# Altium integrated library Silicon Labs Clocks and Oscillators.IntLib: 678 symbols (part 15 of 45)
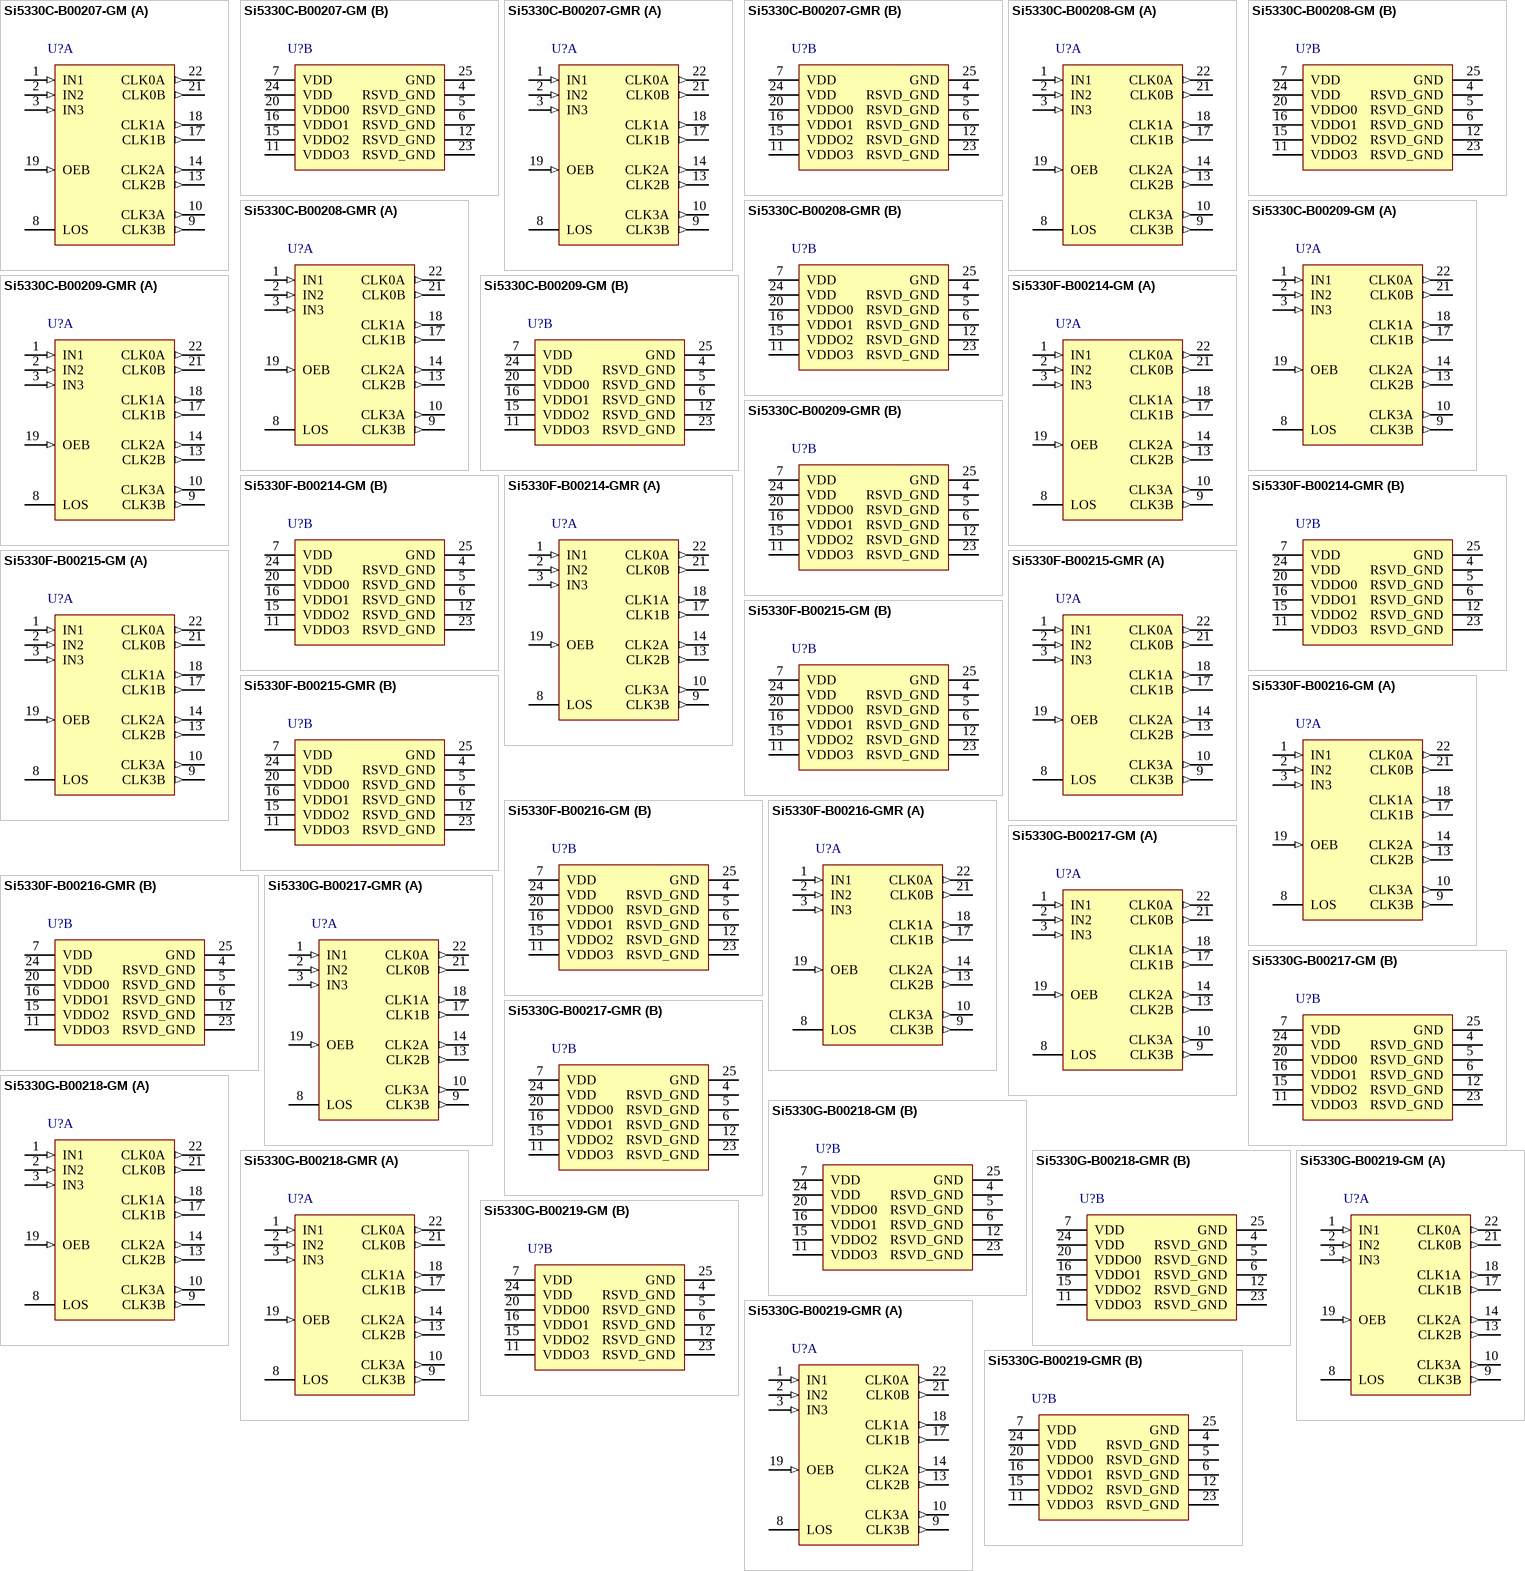
[diagram p58: symbols Si5330C-B00207-GM to Si5330G-B00219-GMR]

## Si5330C-B00207-GM
designator U?
3.3 V Low-Jitter, Low-Skew Clock Buffer / Level Translator, 5 to 250 MHz, -40 to 85 degC, 24-pin QFN; Manufacturer: Silicon Labs; PartNumber: Si5330C-B00207-GM; Frequency (MHz): 5 to 250; Output Format: HCSL; Sub-Family: Clock Buffers; DatasheetVersion: Rev. 1.1; PackageReference: QFN-24; PackageDescription: 24-Pin Quad-Flat No-Leads Package, Body 4 x 4 mm, Pitch 0.5 mm; Supplier 1: Digi-Key; Supplier Part Number 1: SI5330C-B00207-GM-ND; Supplier 2: Mouser; Supplier Part Number 2: 634-SI5330C-B00207GM; Mounting Technology: Surface Mount; Code_JEDEC: MO-220; Code_IPC: J-STD-020; ComponentLink1Description: Manufacturer URL; ComponentLink1URL: http://www.silabs.com/; ComponentLink2Description: Datasheet; ComponentLink2URL: http://www.silabs.com/Support%20Documents/TechnicalDocs/Si5330.pdf; ComponentLink3Description: Package Specification; ComponentLink3URL: http://www.silabs.com/Support%20Documents/TechnicalDocs/Si5330.pdf
footprint SLAB-QFN-24-2500x2500TP_N (QFN, 24-Leads, Body 4x4mm, Pitch 0.5mm, Thermal Pad 2.5x2.5mm, IPC Medium Density)
footprint SLAB-QFN-24-2500x2500TP_L (QFN, 24-Leads, Body 4x4mm, Pitch 0.5mm, Thermal Pad 2.5x2.5mm, IPC High Density)
footprint SLAB-QFN-24-2500x2500TP_M (QFN, 24-Leads, Body 4x4mm, Pitch 0.5mm, Thermal Pad 2.5x2.5mm, IPC Low Density)
part A pins: 1 IN1 (in), 2 IN2 (in), 3 IN3 (in), 8 LOS (oc) "Loss of Signal Indicator.", 9 CLK3B (out), 10 CLK3A (out), 13 CLK2B (out), 14 CLK2A (out), 17 CLK1B (out), 18 CLK1A (out), 19 OEB (in) "Output Enable.", 21 CLK0B (out), 22 CLK0A (out)
part B pins: 4 RSVD_GND (power) "Ground.", 5 RSVD_GND (power) "Ground.", 6 RSVD_GND (power) "Ground.", 7 VDD (power) "Core Supply Voltage.", 11 VDDO3 (power) "Output Clock Supply Voltage.", 12 RSVD_GND (power) "Ground.", 15 VDDO2 (power) "Output Clock Supply Voltage.", 16 VDDO1 (power) "Output Clock Supply Voltage.", 20 VDDO0 (power) "Output Clock Supply Voltage.", 23 RSVD_GND (power) "Ground.", 24 VDD (power) "Core Supply Voltage.", 25 GND (power) "Ground Pad."

## Si5330C-B00207-GMR
designator U?
3.3 V Low-Jitter, Low-Skew Clock Buffer / Level Translator, 5 to 250 MHz, -40 to 85 degC, 24-pin QFN, Tape and Reel; Manufacturer: Silicon Labs; PartNumber: Si5330C-B00207-GMR; Frequency (MHz): 5 to 250; Output Format: HCSL; Sub-Family: Clock Buffers; DatasheetVersion: Rev. 1.1; PackageReference: QFN-24; PackageDescription: 24-Pin Quad-Flat No-Leads Package, Body 4 x 4 mm, Pitch 0.5 mm; Supplier 1: Digi-Key; Supplier Part Number 1: SI5330C-B00207-GMR-ND; Supplier 2: Mouser; Supplier Part Number 2: 634-SI5330CB00207GMR; Packing: Tape and Reel; Mounting Technology: Surface Mount; Code_JEDEC: MO-220; Code_IPC: J-STD-020; ComponentLink1Description: Manufacturer URL; ComponentLink1URL: http://www.silabs.com/; ComponentLink2Description: Datasheet; ComponentLink2URL: http://www.silabs.com/Support%20Documents/TechnicalDocs/Si5330.pdf; ComponentLink3Description: Package Specification; ComponentLink3URL: http://www.silabs.com/Support%20Documents/TechnicalDocs/Si5330.pdf
footprint SLAB-QFN-24-2500x2500TP_N (QFN, 24-Leads, Body 4x4mm, Pitch 0.5mm, Thermal Pad 2.5x2.5mm, IPC Medium Density)
footprint SLAB-QFN-24-2500x2500TP_L (QFN, 24-Leads, Body 4x4mm, Pitch 0.5mm, Thermal Pad 2.5x2.5mm, IPC High Density)
footprint SLAB-QFN-24-2500x2500TP_M (QFN, 24-Leads, Body 4x4mm, Pitch 0.5mm, Thermal Pad 2.5x2.5mm, IPC Low Density)
part A pins: 1 IN1 (in), 2 IN2 (in), 3 IN3 (in), 8 LOS (oc) "Loss of Signal Indicator.", 9 CLK3B (out), 10 CLK3A (out), 13 CLK2B (out), 14 CLK2A (out), 17 CLK1B (out), 18 CLK1A (out), 19 OEB (in) "Output Enable.", 21 CLK0B (out), 22 CLK0A (out)
part B pins: 4 RSVD_GND (power) "Ground.", 5 RSVD_GND (power) "Ground.", 6 RSVD_GND (power) "Ground.", 7 VDD (power) "Core Supply Voltage.", 11 VDDO3 (power) "Output Clock Supply Voltage.", 12 RSVD_GND (power) "Ground.", 15 VDDO2 (power) "Output Clock Supply Voltage.", 16 VDDO1 (power) "Output Clock Supply Voltage.", 20 VDDO0 (power) "Output Clock Supply Voltage.", 23 RSVD_GND (power) "Ground.", 24 VDD (power) "Core Supply Voltage.", 25 GND (power) "Ground Pad."

## Si5330C-B00208-GM
designator U?
2.5 V Low-Jitter, Low-Skew Clock Buffer / Level Translator, 5 to 250 MHz, -40 to 85 degC, 24-pin QFN; Manufacturer: Silicon Labs; PartNumber: Si5330C-B00208-GM; Frequency (MHz): 5 to 250; Output Format: HCSL; Sub-Family: Clock Buffers; DatasheetVersion: Rev. 1.1; PackageReference: QFN-24; PackageDescription: 24-Pin Quad-Flat No-Leads Package, Body 4 x 4 mm, Pitch 0.5 mm; Supplier 1: Digi-Key; Supplier Part Number 1: SI5330C-B00208-GM-ND; Supplier 2: Mouser; Supplier Part Number 2: 634-SI5330C-B00208GM; Mounting Technology: Surface Mount; Code_JEDEC: MO-220; Code_IPC: J-STD-020; ComponentLink1Description: Manufacturer URL; ComponentLink1URL: http://www.silabs.com/; ComponentLink2Description: Datasheet; ComponentLink2URL: http://www.silabs.com/Support%20Documents/TechnicalDocs/Si5330.pdf; ComponentLink3Description: Package Specification; ComponentLink3URL: http://www.silabs.com/Support%20Documents/TechnicalDocs/Si5330.pdf
footprint SLAB-QFN-24-2500x2500TP_N (QFN, 24-Leads, Body 4x4mm, Pitch 0.5mm, Thermal Pad 2.5x2.5mm, IPC Medium Density)
footprint SLAB-QFN-24-2500x2500TP_L (QFN, 24-Leads, Body 4x4mm, Pitch 0.5mm, Thermal Pad 2.5x2.5mm, IPC High Density)
footprint SLAB-QFN-24-2500x2500TP_M (QFN, 24-Leads, Body 4x4mm, Pitch 0.5mm, Thermal Pad 2.5x2.5mm, IPC Low Density)
part A pins: 1 IN1 (in), 2 IN2 (in), 3 IN3 (in), 8 LOS (oc) "Loss of Signal Indicator.", 9 CLK3B (out), 10 CLK3A (out), 13 CLK2B (out), 14 CLK2A (out), 17 CLK1B (out), 18 CLK1A (out), 19 OEB (in) "Output Enable.", 21 CLK0B (out), 22 CLK0A (out)
part B pins: 4 RSVD_GND (power) "Ground.", 5 RSVD_GND (power) "Ground.", 6 RSVD_GND (power) "Ground.", 7 VDD (power) "Core Supply Voltage.", 11 VDDO3 (power) "Output Clock Supply Voltage.", 12 RSVD_GND (power) "Ground.", 15 VDDO2 (power) "Output Clock Supply Voltage.", 16 VDDO1 (power) "Output Clock Supply Voltage.", 20 VDDO0 (power) "Output Clock Supply Voltage.", 23 RSVD_GND (power) "Ground.", 24 VDD (power) "Core Supply Voltage.", 25 GND (power) "Ground Pad."

## Si5330C-B00208-GMR
designator U?
2.5 V Low-Jitter, Low-Skew Clock Buffer / Level Translator, 5 to 250 MHz, -40 to 85 degC, 24-pin QFN, Tape and Reel; Manufacturer: Silicon Labs; PartNumber: Si5330C-B00208-GMR; Frequency (MHz): 5 to 250; Output Format: HCSL; Sub-Family: Clock Buffers; DatasheetVersion: Rev. 1.1; PackageReference: QFN-24; PackageDescription: 24-Pin Quad-Flat No-Leads Package, Body 4 x 4 mm, Pitch 0.5 mm; Supplier 1: Digi-Key; Supplier Part Number 1: SI5330C-B00208-GMR-ND; Supplier 2: Mouser; Supplier Part Number 2: 634-SI5330CB00208GMR; Packing: Tape and Reel; Mounting Technology: Surface Mount; Code_JEDEC: MO-220; Code_IPC: J-STD-020; ComponentLink1Description: Manufacturer URL; ComponentLink1URL: http://www.silabs.com/; ComponentLink2Description: Datasheet; ComponentLink2URL: http://www.silabs.com/Support%20Documents/TechnicalDocs/Si5330.pdf; ComponentLink3Description: Package Specification; ComponentLink3URL: http://www.silabs.com/Support%20Documents/TechnicalDocs/Si5330.pdf
footprint SLAB-QFN-24-2500x2500TP_N (QFN, 24-Leads, Body 4x4mm, Pitch 0.5mm, Thermal Pad 2.5x2.5mm, IPC Medium Density)
footprint SLAB-QFN-24-2500x2500TP_L (QFN, 24-Leads, Body 4x4mm, Pitch 0.5mm, Thermal Pad 2.5x2.5mm, IPC High Density)
footprint SLAB-QFN-24-2500x2500TP_M (QFN, 24-Leads, Body 4x4mm, Pitch 0.5mm, Thermal Pad 2.5x2.5mm, IPC Low Density)
part A pins: 1 IN1 (in), 2 IN2 (in), 3 IN3 (in), 8 LOS (oc) "Loss of Signal Indicator.", 9 CLK3B (out), 10 CLK3A (out), 13 CLK2B (out), 14 CLK2A (out), 17 CLK1B (out), 18 CLK1A (out), 19 OEB (in) "Output Enable.", 21 CLK0B (out), 22 CLK0A (out)
part B pins: 4 RSVD_GND (power) "Ground.", 5 RSVD_GND (power) "Ground.", 6 RSVD_GND (power) "Ground.", 7 VDD (power) "Core Supply Voltage.", 11 VDDO3 (power) "Output Clock Supply Voltage.", 12 RSVD_GND (power) "Ground.", 15 VDDO2 (power) "Output Clock Supply Voltage.", 16 VDDO1 (power) "Output Clock Supply Voltage.", 20 VDDO0 (power) "Output Clock Supply Voltage.", 23 RSVD_GND (power) "Ground.", 24 VDD (power) "Core Supply Voltage.", 25 GND (power) "Ground Pad."

## Si5330C-B00209-GM
designator U?
1.8 V Low-Jitter, Low-Skew Clock Buffer / Level Translator, 5 to 250 MHz, -40 to 85 degC, 24-pin QFN; Manufacturer: Silicon Labs; PartNumber: Si5330C-B00209-GM; Frequency (MHz): 5 to 250; Output Format: HCSL; Sub-Family: Clock Buffers; DatasheetVersion: Rev. 1.1; PackageReference: QFN-24; PackageDescription: 24-Pin Quad-Flat No-Leads Package, Body 4 x 4 mm, Pitch 0.5 mm; Supplier 1: Digi-Key; Supplier Part Number 1: SI5330C-B00209-GM-ND; Supplier 2: Mouser; Supplier Part Number 2: 634-SI5330C-B00209GM; Mounting Technology: Surface Mount; Code_JEDEC: MO-220; Code_IPC: J-STD-020; ComponentLink1Description: Manufacturer URL; ComponentLink1URL: http://www.silabs.com/; ComponentLink2Description: Datasheet; ComponentLink2URL: http://www.silabs.com/Support%20Documents/TechnicalDocs/Si5330.pdf; ComponentLink3Description: Package Specification; ComponentLink3URL: http://www.silabs.com/Support%20Documents/TechnicalDocs/Si5330.pdf
footprint SLAB-QFN-24-2500x2500TP_N (QFN, 24-Leads, Body 4x4mm, Pitch 0.5mm, Thermal Pad 2.5x2.5mm, IPC Medium Density)
footprint SLAB-QFN-24-2500x2500TP_L (QFN, 24-Leads, Body 4x4mm, Pitch 0.5mm, Thermal Pad 2.5x2.5mm, IPC High Density)
footprint SLAB-QFN-24-2500x2500TP_M (QFN, 24-Leads, Body 4x4mm, Pitch 0.5mm, Thermal Pad 2.5x2.5mm, IPC Low Density)
part A pins: 1 IN1 (in), 2 IN2 (in), 3 IN3 (in), 8 LOS (oc) "Loss of Signal Indicator.", 9 CLK3B (out), 10 CLK3A (out), 13 CLK2B (out), 14 CLK2A (out), 17 CLK1B (out), 18 CLK1A (out), 19 OEB (in) "Output Enable.", 21 CLK0B (out), 22 CLK0A (out)
part B pins: 4 RSVD_GND (power) "Ground.", 5 RSVD_GND (power) "Ground.", 6 RSVD_GND (power) "Ground.", 7 VDD (power) "Core Supply Voltage.", 11 VDDO3 (power) "Output Clock Supply Voltage.", 12 RSVD_GND (power) "Ground.", 15 VDDO2 (power) "Output Clock Supply Voltage.", 16 VDDO1 (power) "Output Clock Supply Voltage.", 20 VDDO0 (power) "Output Clock Supply Voltage.", 23 RSVD_GND (power) "Ground.", 24 VDD (power) "Core Supply Voltage.", 25 GND (power) "Ground Pad."

## Si5330C-B00209-GMR
designator U?
1.8 V Low-Jitter, Low-Skew Clock Buffer / Level Translator, 5 to 250 MHz, -40 to 85 degC, 24-pin QFN, Tape and Reel; Manufacturer: Silicon Labs; PartNumber: Si5330C-B00209-GMR; Frequency (MHz): 5 to 250; Output Format: HCSL; Sub-Family: Clock Buffers; DatasheetVersion: Rev. 1.1; PackageReference: QFN-24; PackageDescription: 24-Pin Quad-Flat No-Leads Package, Body 4 x 4 mm, Pitch 0.5 mm; Supplier 1: Digi-Key; Supplier Part Number 1: SI5330C-B00209-GMR-ND; Supplier 2: Mouser; Supplier Part Number 2: 634-SI5330CB00209GMR; Packing: Tape and Reel; Mounting Technology: Surface Mount; Code_JEDEC: MO-220; Code_IPC: J-STD-020; ComponentLink1Description: Manufacturer URL; ComponentLink1URL: http://www.silabs.com/; ComponentLink2Description: Datasheet; ComponentLink2URL: http://www.silabs.com/Support%20Documents/TechnicalDocs/Si5330.pdf; ComponentLink3Description: Package Specification; ComponentLink3URL: http://www.silabs.com/Support%20Documents/TechnicalDocs/Si5330.pdf
footprint SLAB-QFN-24-2500x2500TP_N (QFN, 24-Leads, Body 4x4mm, Pitch 0.5mm, Thermal Pad 2.5x2.5mm, IPC Medium Density)
footprint SLAB-QFN-24-2500x2500TP_L (QFN, 24-Leads, Body 4x4mm, Pitch 0.5mm, Thermal Pad 2.5x2.5mm, IPC High Density)
footprint SLAB-QFN-24-2500x2500TP_M (QFN, 24-Leads, Body 4x4mm, Pitch 0.5mm, Thermal Pad 2.5x2.5mm, IPC Low Density)
part A pins: 1 IN1 (in), 2 IN2 (in), 3 IN3 (in), 8 LOS (oc) "Loss of Signal Indicator.", 9 CLK3B (out), 10 CLK3A (out), 13 CLK2B (out), 14 CLK2A (out), 17 CLK1B (out), 18 CLK1A (out), 19 OEB (in) "Output Enable.", 21 CLK0B (out), 22 CLK0A (out)
part B pins: 4 RSVD_GND (power) "Ground.", 5 RSVD_GND (power) "Ground.", 6 RSVD_GND (power) "Ground.", 7 VDD (power) "Core Supply Voltage.", 11 VDDO3 (power) "Output Clock Supply Voltage.", 12 RSVD_GND (power) "Ground.", 15 VDDO2 (power) "Output Clock Supply Voltage.", 16 VDDO1 (power) "Output Clock Supply Voltage.", 20 VDDO0 (power) "Output Clock Supply Voltage.", 23 RSVD_GND (power) "Ground.", 24 VDD (power) "Core Supply Voltage.", 25 GND (power) "Ground Pad."

## Si5330F-B00214-GM
designator U?
3.3 V Low-Jitter, Low-Skew Clock Buffer / Level Translator, 5 to 200 MHz, -40 to 85 degC, 24-pin QFN; Manufacturer: Silicon Labs; PartNumber: Si5330F-B00214-GM; Frequency (MHz): 5 to 200; Output Format: LVCMOS; Sub-Family: Clock Buffers; DatasheetVersion: Rev. 1.1; PackageReference: QFN-24; PackageDescription: 24-Pin Quad-Flat No-Leads Package, Body 4 x 4 mm, Pitch 0.5 mm; Supplier 1: Digi-Key; Supplier Part Number 1: SI5330F-B00214-GM-ND; Supplier 2: Mouser; Supplier Part Number 2: 634-SI5330FB00214-GM; Mounting Technology: Surface Mount; Code_JEDEC: MO-220; Code_IPC: J-STD-020; ComponentLink1Description: Manufacturer URL; ComponentLink1URL: http://www.silabs.com/; ComponentLink2Description: Datasheet; ComponentLink2URL: http://www.silabs.com/Support%20Documents/TechnicalDocs/Si5330.pdf; ComponentLink3Description: Package Specification; ComponentLink3URL: http://www.silabs.com/Support%20Documents/TechnicalDocs/Si5330.pdf
footprint SLAB-QFN-24-2500x2500TP_N (QFN, 24-Leads, Body 4x4mm, Pitch 0.5mm, Thermal Pad 2.5x2.5mm, IPC Medium Density)
footprint SLAB-QFN-24-2500x2500TP_L (QFN, 24-Leads, Body 4x4mm, Pitch 0.5mm, Thermal Pad 2.5x2.5mm, IPC High Density)
footprint SLAB-QFN-24-2500x2500TP_M (QFN, 24-Leads, Body 4x4mm, Pitch 0.5mm, Thermal Pad 2.5x2.5mm, IPC Low Density)
part A pins: 1 IN1 (in), 2 IN2 (in), 3 IN3 (in), 8 LOS (oc) "Loss of Signal Indicator.", 9 CLK3B (out), 10 CLK3A (out), 13 CLK2B (out), 14 CLK2A (out), 17 CLK1B (out), 18 CLK1A (out), 19 OEB (in) "Output Enable.", 21 CLK0B (out), 22 CLK0A (out)
part B pins: 4 RSVD_GND (power) "Ground.", 5 RSVD_GND (power) "Ground.", 6 RSVD_GND (power) "Ground.", 7 VDD (power) "Core Supply Voltage.", 11 VDDO3 (power) "Output Clock Supply Voltage.", 12 RSVD_GND (power) "Ground.", 15 VDDO2 (power) "Output Clock Supply Voltage.", 16 VDDO1 (power) "Output Clock Supply Voltage.", 20 VDDO0 (power) "Output Clock Supply Voltage.", 23 RSVD_GND (power) "Ground.", 24 VDD (power) "Core Supply Voltage.", 25 GND (power) "Ground Pad."

## Si5330F-B00214-GMR
designator U?
3.3 V Low-Jitter, Low-Skew Clock Buffer / Level Translator, 5 to 200 MHz, -40 to 85 degC, 24-pin QFN, Tape and Reel; Manufacturer: Silicon Labs; PartNumber: Si5330F-B00214-GMR; Frequency (MHz): 5 to 200; Output Format: LVCMOS; Sub-Family: Clock Buffers; DatasheetVersion: Rev. 1.1; PackageReference: QFN-24; PackageDescription: 24-Pin Quad-Flat No-Leads Package, Body 4 x 4 mm, Pitch 0.5 mm; Supplier 1: Digi-Key; Supplier Part Number 1: SI5330F-B00214-GMR-ND; Supplier 2: Mouser; Supplier Part Number 2: 634-SI5330FB00214GMR; Packing: Tape and Reel; Mounting Technology: Surface Mount; Code_JEDEC: MO-220; Code_IPC: J-STD-020; ComponentLink1Description: Manufacturer URL; ComponentLink1URL: http://www.silabs.com/; ComponentLink2Description: Datasheet; ComponentLink2URL: http://www.silabs.com/Support%20Documents/TechnicalDocs/Si5330.pdf; ComponentLink3Description: Package Specification; ComponentLink3URL: http://www.silabs.com/Support%20Documents/TechnicalDocs/Si5330.pdf
footprint SLAB-QFN-24-2500x2500TP_N (QFN, 24-Leads, Body 4x4mm, Pitch 0.5mm, Thermal Pad 2.5x2.5mm, IPC Medium Density)
footprint SLAB-QFN-24-2500x2500TP_L (QFN, 24-Leads, Body 4x4mm, Pitch 0.5mm, Thermal Pad 2.5x2.5mm, IPC High Density)
footprint SLAB-QFN-24-2500x2500TP_M (QFN, 24-Leads, Body 4x4mm, Pitch 0.5mm, Thermal Pad 2.5x2.5mm, IPC Low Density)
part A pins: 1 IN1 (in), 2 IN2 (in), 3 IN3 (in), 8 LOS (oc) "Loss of Signal Indicator.", 9 CLK3B (out), 10 CLK3A (out), 13 CLK2B (out), 14 CLK2A (out), 17 CLK1B (out), 18 CLK1A (out), 19 OEB (in) "Output Enable.", 21 CLK0B (out), 22 CLK0A (out)
part B pins: 4 RSVD_GND (power) "Ground.", 5 RSVD_GND (power) "Ground.", 6 RSVD_GND (power) "Ground.", 7 VDD (power) "Core Supply Voltage.", 11 VDDO3 (power) "Output Clock Supply Voltage.", 12 RSVD_GND (power) "Ground.", 15 VDDO2 (power) "Output Clock Supply Voltage.", 16 VDDO1 (power) "Output Clock Supply Voltage.", 20 VDDO0 (power) "Output Clock Supply Voltage.", 23 RSVD_GND (power) "Ground.", 24 VDD (power) "Core Supply Voltage.", 25 GND (power) "Ground Pad."

## Si5330F-B00215-GM
designator U?
2.5 V Low-Jitter, Low-Skew Clock Buffer / Level Translator, 5 to 200 MHz, -40 to 85 degC, 24-pin QFN; Manufacturer: Silicon Labs; PartNumber: Si5330F-B00215-GM; Frequency (MHz): 5 to 200; Output Format: LVCMOS; Sub-Family: Clock Buffers; DatasheetVersion: Rev. 1.1; PackageReference: QFN-24; PackageDescription: 24-Pin Quad-Flat No-Leads Package, Body 4 x 4 mm, Pitch 0.5 mm; Supplier 1: Digi-Key; Supplier Part Number 1: SI5330F-B00215-GM-ND; Supplier 2: Mouser; Supplier Part Number 2: 634-SI5330FB00215-GM; Mounting Technology: Surface Mount; Code_JEDEC: MO-220; Code_IPC: J-STD-020; ComponentLink1Description: Manufacturer URL; ComponentLink1URL: http://www.silabs.com/; ComponentLink2Description: Datasheet; ComponentLink2URL: http://www.silabs.com/Support%20Documents/TechnicalDocs/Si5330.pdf; ComponentLink3Description: Package Specification; ComponentLink3URL: http://www.silabs.com/Support%20Documents/TechnicalDocs/Si5330.pdf
footprint SLAB-QFN-24-2500x2500TP_N (QFN, 24-Leads, Body 4x4mm, Pitch 0.5mm, Thermal Pad 2.5x2.5mm, IPC Medium Density)
footprint SLAB-QFN-24-2500x2500TP_L (QFN, 24-Leads, Body 4x4mm, Pitch 0.5mm, Thermal Pad 2.5x2.5mm, IPC High Density)
footprint SLAB-QFN-24-2500x2500TP_M (QFN, 24-Leads, Body 4x4mm, Pitch 0.5mm, Thermal Pad 2.5x2.5mm, IPC Low Density)
part A pins: 1 IN1 (in), 2 IN2 (in), 3 IN3 (in), 8 LOS (oc) "Loss of Signal Indicator.", 9 CLK3B (out), 10 CLK3A (out), 13 CLK2B (out), 14 CLK2A (out), 17 CLK1B (out), 18 CLK1A (out), 19 OEB (in) "Output Enable.", 21 CLK0B (out), 22 CLK0A (out)
part B pins: 4 RSVD_GND (power) "Ground.", 5 RSVD_GND (power) "Ground.", 6 RSVD_GND (power) "Ground.", 7 VDD (power) "Core Supply Voltage.", 11 VDDO3 (power) "Output Clock Supply Voltage.", 12 RSVD_GND (power) "Ground.", 15 VDDO2 (power) "Output Clock Supply Voltage.", 16 VDDO1 (power) "Output Clock Supply Voltage.", 20 VDDO0 (power) "Output Clock Supply Voltage.", 23 RSVD_GND (power) "Ground.", 24 VDD (power) "Core Supply Voltage.", 25 GND (power) "Ground Pad."

## Si5330F-B00215-GMR
designator U?
2.5 V Low-Jitter, Low-Skew Clock Buffer / Level Translator, 5 to 200 MHz, -40 to 85 degC, 24-pin QFN, Tape and Reel; Manufacturer: Silicon Labs; PartNumber: Si5330F-B00215-GMR; Frequency (MHz): 5 to 200; Output Format: LVCMOS; Sub-Family: Clock Buffers; DatasheetVersion: Rev. 1.1; PackageReference: QFN-24; PackageDescription: 24-Pin Quad-Flat No-Leads Package, Body 4 x 4 mm, Pitch 0.5 mm; Supplier 1: Digi-Key; Supplier Part Number 1: SI5330F-B00215-GMR-ND; Supplier 2: Mouser; Supplier Part Number 2: 634-SI5330FB00215GMR; Packing: Tape and Reel; Mounting Technology: Surface Mount; Code_JEDEC: MO-220; Code_IPC: J-STD-020; ComponentLink1Description: Manufacturer URL; ComponentLink1URL: http://www.silabs.com/; ComponentLink2Description: Datasheet; ComponentLink2URL: http://www.silabs.com/Support%20Documents/TechnicalDocs/Si5330.pdf; ComponentLink3Description: Package Specification; ComponentLink3URL: http://www.silabs.com/Support%20Documents/TechnicalDocs/Si5330.pdf
footprint SLAB-QFN-24-2500x2500TP_N (QFN, 24-Leads, Body 4x4mm, Pitch 0.5mm, Thermal Pad 2.5x2.5mm, IPC Medium Density)
footprint SLAB-QFN-24-2500x2500TP_L (QFN, 24-Leads, Body 4x4mm, Pitch 0.5mm, Thermal Pad 2.5x2.5mm, IPC High Density)
footprint SLAB-QFN-24-2500x2500TP_M (QFN, 24-Leads, Body 4x4mm, Pitch 0.5mm, Thermal Pad 2.5x2.5mm, IPC Low Density)
part A pins: 1 IN1 (in), 2 IN2 (in), 3 IN3 (in), 8 LOS (oc) "Loss of Signal Indicator.", 9 CLK3B (out), 10 CLK3A (out), 13 CLK2B (out), 14 CLK2A (out), 17 CLK1B (out), 18 CLK1A (out), 19 OEB (in) "Output Enable.", 21 CLK0B (out), 22 CLK0A (out)
part B pins: 4 RSVD_GND (power) "Ground.", 5 RSVD_GND (power) "Ground.", 6 RSVD_GND (power) "Ground.", 7 VDD (power) "Core Supply Voltage.", 11 VDDO3 (power) "Output Clock Supply Voltage.", 12 RSVD_GND (power) "Ground.", 15 VDDO2 (power) "Output Clock Supply Voltage.", 16 VDDO1 (power) "Output Clock Supply Voltage.", 20 VDDO0 (power) "Output Clock Supply Voltage.", 23 RSVD_GND (power) "Ground.", 24 VDD (power) "Core Supply Voltage.", 25 GND (power) "Ground Pad."

## Si5330F-B00216-GM
designator U?
1.8 V Low-Jitter, Low-Skew Clock Buffer / Level Translator, 5 to 200 MHz, -40 to 85 degC, 24-pin QFN; Manufacturer: Silicon Labs; PartNumber: Si5330F-B00216-GM; Frequency (MHz): 5 to 200; Output Format: LVCMOS; Sub-Family: Clock Buffers; DatasheetVersion: Rev. 1.1; PackageReference: QFN-24; PackageDescription: 24-Pin Quad-Flat No-Leads Package, Body 4 x 4 mm, Pitch 0.5 mm; Supplier 1: Digi-Key; Supplier Part Number 1: SI5330F-B00216-GM-ND; Supplier 2: Mouser; Supplier Part Number 2: 634-SI5330FB00216-GM; Mounting Technology: Surface Mount; Code_JEDEC: MO-220; Code_IPC: J-STD-020; ComponentLink1Description: Manufacturer URL; ComponentLink1URL: http://www.silabs.com/; ComponentLink2Description: Datasheet; ComponentLink2URL: http://www.silabs.com/Support%20Documents/TechnicalDocs/Si5330.pdf; ComponentLink3Description: Package Specification; ComponentLink3URL: http://www.silabs.com/Support%20Documents/TechnicalDocs/Si5330.pdf
footprint SLAB-QFN-24-2500x2500TP_N (QFN, 24-Leads, Body 4x4mm, Pitch 0.5mm, Thermal Pad 2.5x2.5mm, IPC Medium Density)
footprint SLAB-QFN-24-2500x2500TP_L (QFN, 24-Leads, Body 4x4mm, Pitch 0.5mm, Thermal Pad 2.5x2.5mm, IPC High Density)
footprint SLAB-QFN-24-2500x2500TP_M (QFN, 24-Leads, Body 4x4mm, Pitch 0.5mm, Thermal Pad 2.5x2.5mm, IPC Low Density)
part A pins: 1 IN1 (in), 2 IN2 (in), 3 IN3 (in), 8 LOS (oc) "Loss of Signal Indicator.", 9 CLK3B (out), 10 CLK3A (out), 13 CLK2B (out), 14 CLK2A (out), 17 CLK1B (out), 18 CLK1A (out), 19 OEB (in) "Output Enable.", 21 CLK0B (out), 22 CLK0A (out)
part B pins: 4 RSVD_GND (power) "Ground.", 5 RSVD_GND (power) "Ground.", 6 RSVD_GND (power) "Ground.", 7 VDD (power) "Core Supply Voltage.", 11 VDDO3 (power) "Output Clock Supply Voltage.", 12 RSVD_GND (power) "Ground.", 15 VDDO2 (power) "Output Clock Supply Voltage.", 16 VDDO1 (power) "Output Clock Supply Voltage.", 20 VDDO0 (power) "Output Clock Supply Voltage.", 23 RSVD_GND (power) "Ground.", 24 VDD (power) "Core Supply Voltage.", 25 GND (power) "Ground Pad."

## Si5330F-B00216-GMR
designator U?
1.8 V Low-Jitter, Low-Skew Clock Buffer / Level Translator, 5 to 200 MHz, -40 to 85 degC, 24-pin QFN, Tape and Reel; Manufacturer: Silicon Labs; PartNumber: Si5330F-B00216-GMR; Frequency (MHz): 5 to 200; Output Format: LVCMOS; Sub-Family: Clock Buffers; DatasheetVersion: Rev. 1.1; PackageReference: QFN-24; PackageDescription: 24-Pin Quad-Flat No-Leads Package, Body 4 x 4 mm, Pitch 0.5 mm; Supplier 1: Digi-Key; Supplier Part Number 1: SI5330F-B00216-GMR-ND; Supplier 2: Mouser; Supplier Part Number 2: 634-SI5330FB00216GMR; Packing: Tape and Reel; Mounting Technology: Surface Mount; Code_JEDEC: MO-220; Code_IPC: J-STD-020; ComponentLink1Description: Manufacturer URL; ComponentLink1URL: http://www.silabs.com/; ComponentLink2Description: Datasheet; ComponentLink2URL: http://www.silabs.com/Support%20Documents/TechnicalDocs/Si5330.pdf; ComponentLink3Description: Package Specification; ComponentLink3URL: http://www.silabs.com/Support%20Documents/TechnicalDocs/Si5330.pdf
footprint SLAB-QFN-24-2500x2500TP_N (QFN, 24-Leads, Body 4x4mm, Pitch 0.5mm, Thermal Pad 2.5x2.5mm, IPC Medium Density)
footprint SLAB-QFN-24-2500x2500TP_L (QFN, 24-Leads, Body 4x4mm, Pitch 0.5mm, Thermal Pad 2.5x2.5mm, IPC High Density)
footprint SLAB-QFN-24-2500x2500TP_M (QFN, 24-Leads, Body 4x4mm, Pitch 0.5mm, Thermal Pad 2.5x2.5mm, IPC Low Density)
part A pins: 1 IN1 (in), 2 IN2 (in), 3 IN3 (in), 8 LOS (oc) "Loss of Signal Indicator.", 9 CLK3B (out), 10 CLK3A (out), 13 CLK2B (out), 14 CLK2A (out), 17 CLK1B (out), 18 CLK1A (out), 19 OEB (in) "Output Enable.", 21 CLK0B (out), 22 CLK0A (out)
part B pins: 4 RSVD_GND (power) "Ground.", 5 RSVD_GND (power) "Ground.", 6 RSVD_GND (power) "Ground.", 7 VDD (power) "Core Supply Voltage.", 11 VDDO3 (power) "Output Clock Supply Voltage.", 12 RSVD_GND (power) "Ground.", 15 VDDO2 (power) "Output Clock Supply Voltage.", 16 VDDO1 (power) "Output Clock Supply Voltage.", 20 VDDO0 (power) "Output Clock Supply Voltage.", 23 RSVD_GND (power) "Ground.", 24 VDD (power) "Core Supply Voltage.", 25 GND (power) "Ground Pad."

## Si5330G-B00217-GM
designator U?
3.3 V Low-Jitter, Low-Skew Clock Buffer / Level Translator, 5 to 200 MHz, -40 to 85 degC, 24-pin QFN; Manufacturer: Silicon Labs; PartNumber: Si5330G-B00217-GM; Frequency (MHz): 5 to 200; Output Format: LVCMOS; Sub-Family: Clock Buffers; DatasheetVersion: Rev. 1.1; PackageReference: QFN-24; PackageDescription: 24-Pin Quad-Flat No-Leads Package, Body 4 x 4 mm, Pitch 0.5 mm; Supplier 1: Digi-Key; Supplier Part Number 1: SI5330G-B00217-GM-ND; Supplier 2: Mouser; Supplier Part Number 2: 634-SI5330GB00217-GM; Mounting Technology: Surface Mount; Code_JEDEC: MO-220; Code_IPC: J-STD-020; ComponentLink1Description: Manufacturer URL; ComponentLink1URL: http://www.silabs.com/; ComponentLink2Description: Datasheet; ComponentLink2URL: http://www.silabs.com/Support%20Documents/TechnicalDocs/Si5330.pdf; ComponentLink3Description: Package Specification; ComponentLink3URL: http://www.silabs.com/Support%20Documents/TechnicalDocs/Si5330.pdf
footprint SLAB-QFN-24-2500x2500TP_N (QFN, 24-Leads, Body 4x4mm, Pitch 0.5mm, Thermal Pad 2.5x2.5mm, IPC Medium Density)
footprint SLAB-QFN-24-2500x2500TP_L (QFN, 24-Leads, Body 4x4mm, Pitch 0.5mm, Thermal Pad 2.5x2.5mm, IPC High Density)
footprint SLAB-QFN-24-2500x2500TP_M (QFN, 24-Leads, Body 4x4mm, Pitch 0.5mm, Thermal Pad 2.5x2.5mm, IPC Low Density)
part A pins: 1 IN1 (in), 2 IN2 (in), 3 IN3 (in), 8 LOS (oc) "Loss of Signal Indicator.", 9 CLK3B (out), 10 CLK3A (out), 13 CLK2B (out), 14 CLK2A (out), 17 CLK1B (out), 18 CLK1A (out), 19 OEB (in) "Output Enable.", 21 CLK0B (out), 22 CLK0A (out)
part B pins: 4 RSVD_GND (power) "Ground.", 5 RSVD_GND (power) "Ground.", 6 RSVD_GND (power) "Ground.", 7 VDD (power) "Core Supply Voltage.", 11 VDDO3 (power) "Output Clock Supply Voltage.", 12 RSVD_GND (power) "Ground.", 15 VDDO2 (power) "Output Clock Supply Voltage.", 16 VDDO1 (power) "Output Clock Supply Voltage.", 20 VDDO0 (power) "Output Clock Supply Voltage.", 23 RSVD_GND (power) "Ground.", 24 VDD (power) "Core Supply Voltage.", 25 GND (power) "Ground Pad."

## Si5330G-B00217-GMR
designator U?
3.3 V Low-Jitter, Low-Skew Clock Buffer / Level Translator, 5 to 200 MHz, -40 to 85 degC, 24-pin QFN, Tape and Reel; Manufacturer: Silicon Labs; PartNumber: Si5330G-B00217-GMR; Frequency (MHz): 5 to 200; Output Format: LVCMOS; Sub-Family: Clock Buffers; DatasheetVersion: Rev. 1.1; PackageReference: QFN-24; PackageDescription: 24-Pin Quad-Flat No-Leads Package, Body 4 x 4 mm, Pitch 0.5 mm; Supplier 1: Digi-Key; Supplier Part Number 1: SI5330G-B00217-GMR-ND; Supplier 2: Mouser; Supplier Part Number 2: 634-SI5330GB00217GMR; Packing: Tape and Reel; Mounting Technology: Surface Mount; Code_JEDEC: MO-220; Code_IPC: J-STD-020; ComponentLink1Description: Manufacturer URL; ComponentLink1URL: http://www.silabs.com/; ComponentLink2Description: Datasheet; ComponentLink2URL: http://www.silabs.com/Support%20Documents/TechnicalDocs/Si5330.pdf; ComponentLink3Description: Package Specification; ComponentLink3URL: http://www.silabs.com/Support%20Documents/TechnicalDocs/Si5330.pdf
footprint SLAB-QFN-24-2500x2500TP_N (QFN, 24-Leads, Body 4x4mm, Pitch 0.5mm, Thermal Pad 2.5x2.5mm, IPC Medium Density)
footprint SLAB-QFN-24-2500x2500TP_L (QFN, 24-Leads, Body 4x4mm, Pitch 0.5mm, Thermal Pad 2.5x2.5mm, IPC High Density)
footprint SLAB-QFN-24-2500x2500TP_M (QFN, 24-Leads, Body 4x4mm, Pitch 0.5mm, Thermal Pad 2.5x2.5mm, IPC Low Density)
part A pins: 1 IN1 (in), 2 IN2 (in), 3 IN3 (in), 8 LOS (oc) "Loss of Signal Indicator.", 9 CLK3B (out), 10 CLK3A (out), 13 CLK2B (out), 14 CLK2A (out), 17 CLK1B (out), 18 CLK1A (out), 19 OEB (in) "Output Enable.", 21 CLK0B (out), 22 CLK0A (out)
part B pins: 4 RSVD_GND (power) "Ground.", 5 RSVD_GND (power) "Ground.", 6 RSVD_GND (power) "Ground.", 7 VDD (power) "Core Supply Voltage.", 11 VDDO3 (power) "Output Clock Supply Voltage.", 12 RSVD_GND (power) "Ground.", 15 VDDO2 (power) "Output Clock Supply Voltage.", 16 VDDO1 (power) "Output Clock Supply Voltage.", 20 VDDO0 (power) "Output Clock Supply Voltage.", 23 RSVD_GND (power) "Ground.", 24 VDD (power) "Core Supply Voltage.", 25 GND (power) "Ground Pad."

## Si5330G-B00218-GM
designator U?
2.5 V Low-Jitter, Low-Skew Clock Buffer / Level Translator, 5 to 200 MHz, -40 to 85 degC, 24-pin QFN; Manufacturer: Silicon Labs; PartNumber: Si5330G-B00218-GM; Frequency (MHz): 5 to 200; Output Format: LVCMOS; Sub-Family: Clock Buffers; DatasheetVersion: Rev. 1.1; PackageReference: QFN-24; PackageDescription: 24-Pin Quad-Flat No-Leads Package, Body 4 x 4 mm, Pitch 0.5 mm; Supplier 1: Digi-Key; Supplier Part Number 1: SI5330G-B00218-GM-ND; Supplier 2: Mouser; Supplier Part Number 2: 634-SI5330GB00218-GM; Mounting Technology: Surface Mount; Code_JEDEC: MO-220; Code_IPC: J-STD-020; ComponentLink1Description: Manufacturer URL; ComponentLink1URL: http://www.silabs.com/; ComponentLink2Description: Datasheet; ComponentLink2URL: http://www.silabs.com/Support%20Documents/TechnicalDocs/Si5330.pdf; ComponentLink3Description: Package Specification; ComponentLink3URL: http://www.silabs.com/Support%20Documents/TechnicalDocs/Si5330.pdf
footprint SLAB-QFN-24-2500x2500TP_N (QFN, 24-Leads, Body 4x4mm, Pitch 0.5mm, Thermal Pad 2.5x2.5mm, IPC Medium Density)
footprint SLAB-QFN-24-2500x2500TP_L (QFN, 24-Leads, Body 4x4mm, Pitch 0.5mm, Thermal Pad 2.5x2.5mm, IPC High Density)
footprint SLAB-QFN-24-2500x2500TP_M (QFN, 24-Leads, Body 4x4mm, Pitch 0.5mm, Thermal Pad 2.5x2.5mm, IPC Low Density)
part A pins: 1 IN1 (in), 2 IN2 (in), 3 IN3 (in), 8 LOS (oc) "Loss of Signal Indicator.", 9 CLK3B (out), 10 CLK3A (out), 13 CLK2B (out), 14 CLK2A (out), 17 CLK1B (out), 18 CLK1A (out), 19 OEB (in) "Output Enable.", 21 CLK0B (out), 22 CLK0A (out)
part B pins: 4 RSVD_GND (power) "Ground.", 5 RSVD_GND (power) "Ground.", 6 RSVD_GND (power) "Ground.", 7 VDD (power) "Core Supply Voltage.", 11 VDDO3 (power) "Output Clock Supply Voltage.", 12 RSVD_GND (power) "Ground.", 15 VDDO2 (power) "Output Clock Supply Voltage.", 16 VDDO1 (power) "Output Clock Supply Voltage.", 20 VDDO0 (power) "Output Clock Supply Voltage.", 23 RSVD_GND (power) "Ground.", 24 VDD (power) "Core Supply Voltage.", 25 GND (power) "Ground Pad."

## Si5330G-B00218-GMR
designator U?
2.5 V Low-Jitter, Low-Skew Clock Buffer / Level Translator, 5 to 200 MHz, -40 to 85 degC, 24-pin QFN, Tape and Reel; Manufacturer: Silicon Labs; PartNumber: Si5330G-B00218-GMR; Frequency (MHz): 5 to 200; Output Format: LVCMOS; Sub-Family: Clock Buffers; DatasheetVersion: Rev. 1.1; PackageReference: QFN-24; PackageDescription: 24-Pin Quad-Flat No-Leads Package, Body 4 x 4 mm, Pitch 0.5 mm; Supplier 1: Digi-Key; Supplier Part Number 1: SI5330G-B00218-GMR-ND; Supplier 2: Mouser; Supplier Part Number 2: 634-SI5330GB00218GMR; Packing: Tape and Reel; Mounting Technology: Surface Mount; Code_JEDEC: MO-220; Code_IPC: J-STD-020; ComponentLink1Description: Manufacturer URL; ComponentLink1URL: http://www.silabs.com/; ComponentLink2Description: Datasheet; ComponentLink2URL: http://www.silabs.com/Support%20Documents/TechnicalDocs/Si5330.pdf; ComponentLink3Description: Package Specification; ComponentLink3URL: http://www.silabs.com/Support%20Documents/TechnicalDocs/Si5330.pdf
footprint SLAB-QFN-24-2500x2500TP_N (QFN, 24-Leads, Body 4x4mm, Pitch 0.5mm, Thermal Pad 2.5x2.5mm, IPC Medium Density)
footprint SLAB-QFN-24-2500x2500TP_L (QFN, 24-Leads, Body 4x4mm, Pitch 0.5mm, Thermal Pad 2.5x2.5mm, IPC High Density)
footprint SLAB-QFN-24-2500x2500TP_M (QFN, 24-Leads, Body 4x4mm, Pitch 0.5mm, Thermal Pad 2.5x2.5mm, IPC Low Density)
part A pins: 1 IN1 (in), 2 IN2 (in), 3 IN3 (in), 8 LOS (oc) "Loss of Signal Indicator.", 9 CLK3B (out), 10 CLK3A (out), 13 CLK2B (out), 14 CLK2A (out), 17 CLK1B (out), 18 CLK1A (out), 19 OEB (in) "Output Enable.", 21 CLK0B (out), 22 CLK0A (out)
part B pins: 4 RSVD_GND (power) "Ground.", 5 RSVD_GND (power) "Ground.", 6 RSVD_GND (power) "Ground.", 7 VDD (power) "Core Supply Voltage.", 11 VDDO3 (power) "Output Clock Supply Voltage.", 12 RSVD_GND (power) "Ground.", 15 VDDO2 (power) "Output Clock Supply Voltage.", 16 VDDO1 (power) "Output Clock Supply Voltage.", 20 VDDO0 (power) "Output Clock Supply Voltage.", 23 RSVD_GND (power) "Ground.", 24 VDD (power) "Core Supply Voltage.", 25 GND (power) "Ground Pad."

## Si5330G-B00219-GM
designator U?
1.8 V Low-Jitter, Low-Skew Clock Buffer / Level Translator, 5 to 200 MHz, -40 to 85 degC, 24-pin QFN; Manufacturer: Silicon Labs; PartNumber: Si5330G-B00219-GM; Frequency (MHz): 5 to 200; Output Format: LVCMOS; Sub-Family: Clock Buffers; DatasheetVersion: Rev. 1.1; PackageReference: QFN-24; PackageDescription: 24-Pin Quad-Flat No-Leads Package, Body 4 x 4 mm, Pitch 0.5 mm; Supplier 1: Digi-Key; Supplier Part Number 1: SI5330G-B00219-GM-ND; Supplier 2: Mouser; Supplier Part Number 2: 634-SI5330GB00219-GM; Mounting Technology: Surface Mount; Code_JEDEC: MO-220; Code_IPC: J-STD-020; ComponentLink1Description: Manufacturer URL; ComponentLink1URL: http://www.silabs.com/; ComponentLink2Description: Datasheet; ComponentLink2URL: http://www.silabs.com/Support%20Documents/TechnicalDocs/Si5330.pdf; ComponentLink3Description: Package Specification; ComponentLink3URL: http://www.silabs.com/Support%20Documents/TechnicalDocs/Si5330.pdf
footprint SLAB-QFN-24-2500x2500TP_N (QFN, 24-Leads, Body 4x4mm, Pitch 0.5mm, Thermal Pad 2.5x2.5mm, IPC Medium Density)
footprint SLAB-QFN-24-2500x2500TP_L (QFN, 24-Leads, Body 4x4mm, Pitch 0.5mm, Thermal Pad 2.5x2.5mm, IPC High Density)
footprint SLAB-QFN-24-2500x2500TP_M (QFN, 24-Leads, Body 4x4mm, Pitch 0.5mm, Thermal Pad 2.5x2.5mm, IPC Low Density)
part A pins: 1 IN1 (in), 2 IN2 (in), 3 IN3 (in), 8 LOS (oc) "Loss of Signal Indicator.", 9 CLK3B (out), 10 CLK3A (out), 13 CLK2B (out), 14 CLK2A (out), 17 CLK1B (out), 18 CLK1A (out), 19 OEB (in) "Output Enable.", 21 CLK0B (out), 22 CLK0A (out)
part B pins: 4 RSVD_GND (power) "Ground.", 5 RSVD_GND (power) "Ground.", 6 RSVD_GND (power) "Ground.", 7 VDD (power) "Core Supply Voltage.", 11 VDDO3 (power) "Output Clock Supply Voltage.", 12 RSVD_GND (power) "Ground.", 15 VDDO2 (power) "Output Clock Supply Voltage.", 16 VDDO1 (power) "Output Clock Supply Voltage.", 20 VDDO0 (power) "Output Clock Supply Voltage.", 23 RSVD_GND (power) "Ground.", 24 VDD (power) "Core Supply Voltage.", 25 GND (power) "Ground Pad."

## Si5330G-B00219-GMR
designator U?
1.8 V Low-Jitter, Low-Skew Clock Buffer / Level Translator, 5 to 200 MHz, -40 to 85 degC, 24-pin QFN, Tape and Reel; Manufacturer: Silicon Labs; PartNumber: Si5330G-B00219-GMR; Frequency (MHz): 5 to 200; Output Format: LVCMOS; Sub-Family: Clock Buffers; DatasheetVersion: Rev. 1.1; PackageReference: QFN-24; PackageDescription: 24-Pin Quad-Flat No-Leads Package, Body 4 x 4 mm, Pitch 0.5 mm; Supplier 1: Digi-Key; Supplier Part Number 1: SI5330G-B00219-GMR-ND; Supplier 2: Mouser; Supplier Part Number 2: 634-SI5330GB00219GMR; Packing: Tape and Reel; Mounting Technology: Surface Mount; Code_JEDEC: MO-220; Code_IPC: J-STD-020; ComponentLink1Description: Manufacturer URL; ComponentLink1URL: http://www.silabs.com/; ComponentLink2Description: Datasheet; ComponentLink2URL: http://www.silabs.com/Support%20Documents/TechnicalDocs/Si5330.pdf; ComponentLink3Description: Package Specification; ComponentLink3URL: http://www.silabs.com/Support%20Documents/TechnicalDocs/Si5330.pdf
footprint SLAB-QFN-24-2500x2500TP_N (QFN, 24-Leads, Body 4x4mm, Pitch 0.5mm, Thermal Pad 2.5x2.5mm, IPC Medium Density)
footprint SLAB-QFN-24-2500x2500TP_L (QFN, 24-Leads, Body 4x4mm, Pitch 0.5mm, Thermal Pad 2.5x2.5mm, IPC High Density)
footprint SLAB-QFN-24-2500x2500TP_M (QFN, 24-Leads, Body 4x4mm, Pitch 0.5mm, Thermal Pad 2.5x2.5mm, IPC Low Density)
part A pins: 1 IN1 (in), 2 IN2 (in), 3 IN3 (in), 8 LOS (oc) "Loss of Signal Indicator.", 9 CLK3B (out), 10 CLK3A (out), 13 CLK2B (out), 14 CLK2A (out), 17 CLK1B (out), 18 CLK1A (out), 19 OEB (in) "Output Enable.", 21 CLK0B (out), 22 CLK0A (out)
part B pins: 4 RSVD_GND (power) "Ground.", 5 RSVD_GND (power) "Ground.", 6 RSVD_GND (power) "Ground.", 7 VDD (power) "Core Supply Voltage.", 11 VDDO3 (power) "Output Clock Supply Voltage.", 12 RSVD_GND (power) "Ground.", 15 VDDO2 (power) "Output Clock Supply Voltage.", 16 VDDO1 (power) "Output Clock Supply Voltage.", 20 VDDO0 (power) "Output Clock Supply Voltage.", 23 RSVD_GND (power) "Ground.", 24 VDD (power) "Core Supply Voltage.", 25 GND (power) "Ground Pad."

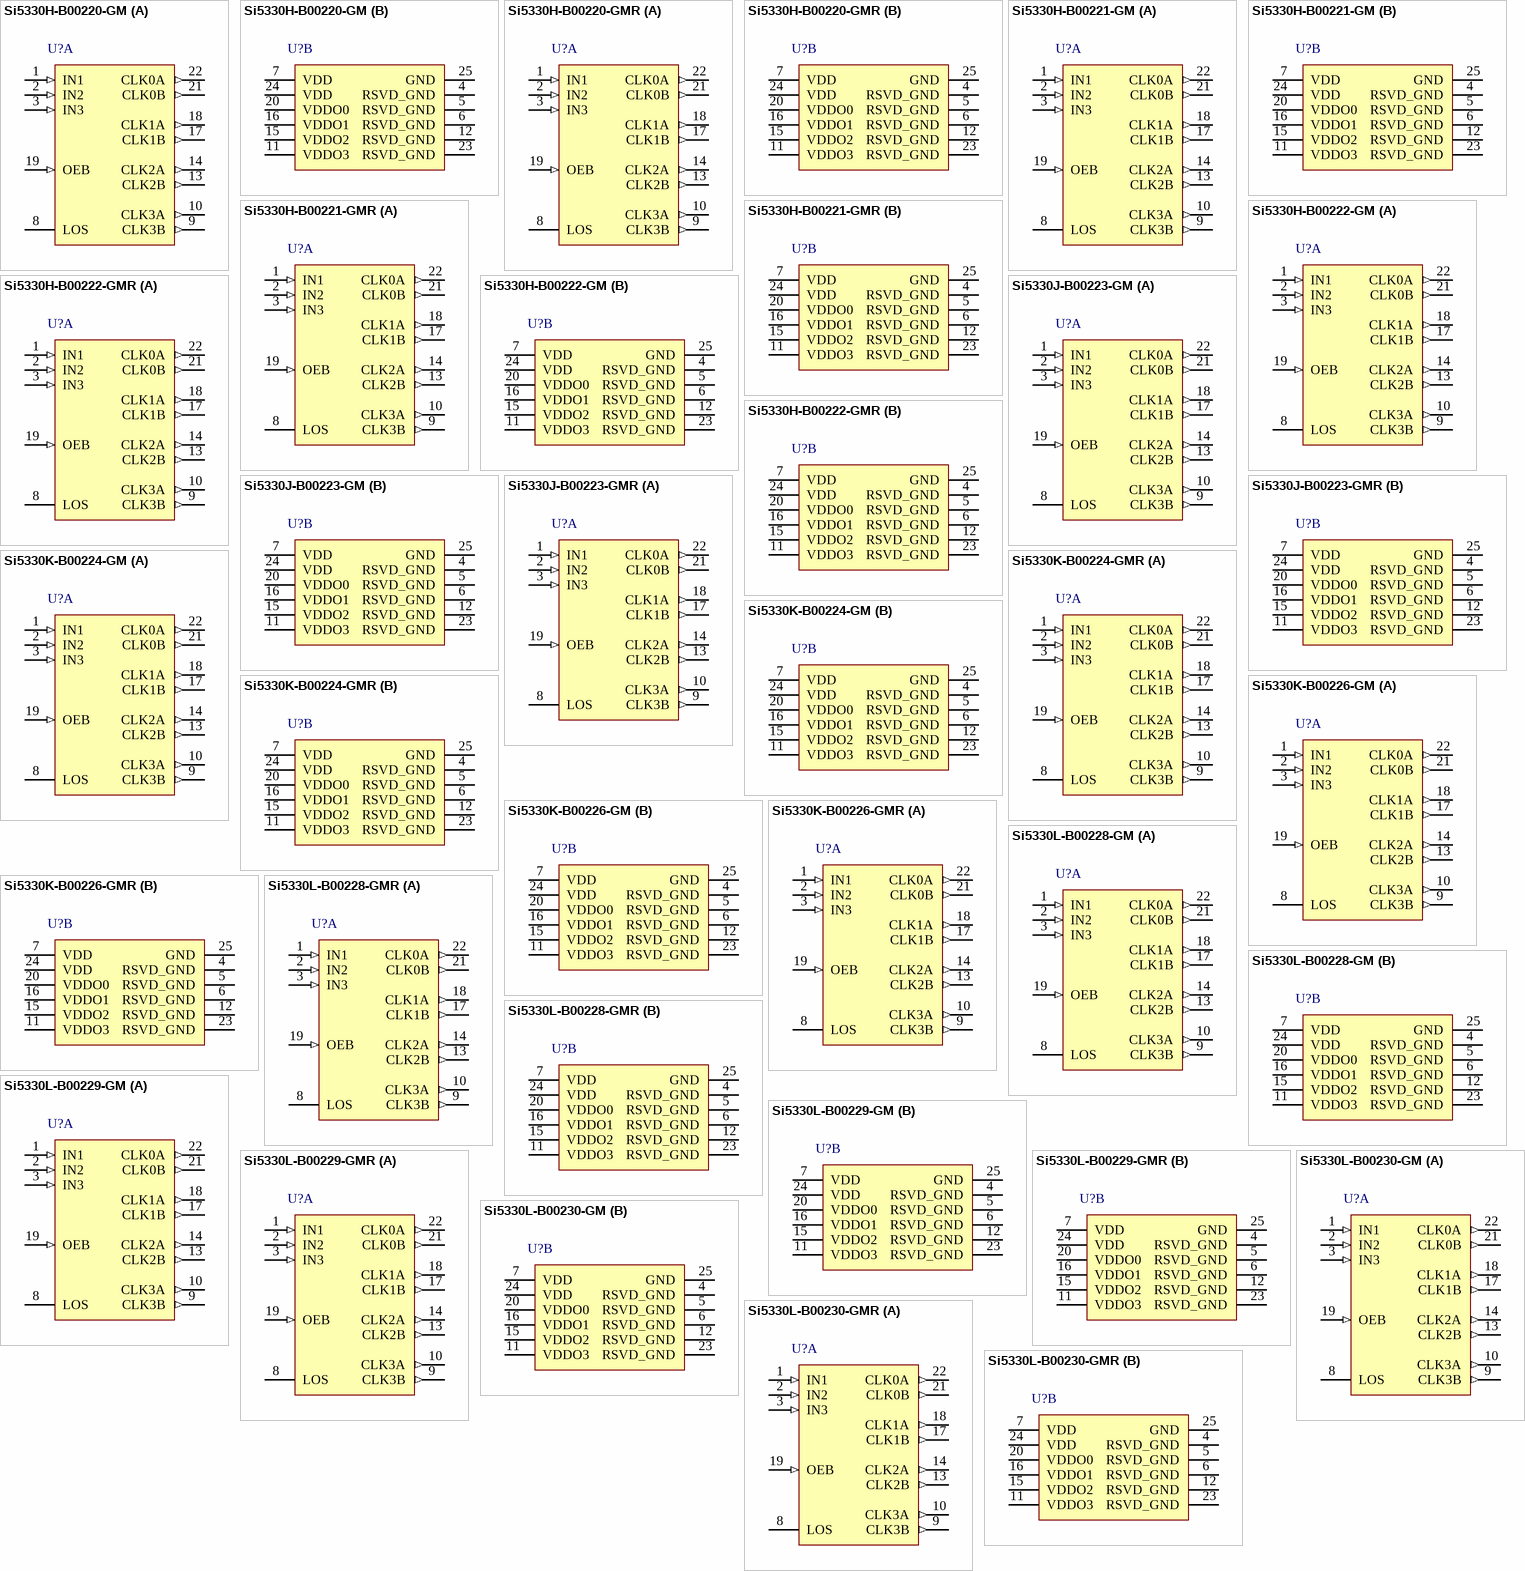
[diagram p17: symbols Si5330H-B00220-GM to Si5330L-B00230-GMR]

## Si5330H-B00220-GM
designator U?
3.3 V Low-Jitter, Low-Skew Clock Buffer / Level Translator, 5 to 350 MHz, -40 to 85 degC, 24-pin QFN; Manufacturer: Silicon Labs; PartNumber: Si5330H-B00220-GM; Frequency (MHz): 5 to 350; Output Format: SSTL; Sub-Family: Clock Buffers; DatasheetVersion: Rev. 1.1; PackageReference: QFN-24; PackageDescription: 24-Pin Quad-Flat No-Leads Package, Body 4 x 4 mm, Pitch 0.5 mm; Supplier 1: Digi-Key; Supplier Part Number 1: SI5330H-B00220-GM-ND; Supplier 2: Mouser; Supplier Part Number 2: 634-SI5330HB00220-GM; Mounting Technology: Surface Mount; Code_JEDEC: MO-220; Code_IPC: J-STD-020; ComponentLink1Description: Manufacturer URL; ComponentLink1URL: http://www.silabs.com/; ComponentLink2Description: Datasheet; ComponentLink2URL: http://www.silabs.com/Support%20Documents/TechnicalDocs/Si5330.pdf; ComponentLink3Description: Package Specification; ComponentLink3URL: http://www.silabs.com/Support%20Documents/TechnicalDocs/Si5330.pdf
footprint SLAB-QFN-24-2500x2500TP_N (QFN, 24-Leads, Body 4x4mm, Pitch 0.5mm, Thermal Pad 2.5x2.5mm, IPC Medium Density)
footprint SLAB-QFN-24-2500x2500TP_L (QFN, 24-Leads, Body 4x4mm, Pitch 0.5mm, Thermal Pad 2.5x2.5mm, IPC High Density)
footprint SLAB-QFN-24-2500x2500TP_M (QFN, 24-Leads, Body 4x4mm, Pitch 0.5mm, Thermal Pad 2.5x2.5mm, IPC Low Density)
part A pins: 1 IN1 (in), 2 IN2 (in), 3 IN3 (in), 8 LOS (oc) "Loss of Signal Indicator.", 9 CLK3B (out), 10 CLK3A (out), 13 CLK2B (out), 14 CLK2A (out), 17 CLK1B (out), 18 CLK1A (out), 19 OEB (in) "Output Enable.", 21 CLK0B (out), 22 CLK0A (out)
part B pins: 4 RSVD_GND (power) "Ground.", 5 RSVD_GND (power) "Ground.", 6 RSVD_GND (power) "Ground.", 7 VDD (power) "Core Supply Voltage.", 11 VDDO3 (power) "Output Clock Supply Voltage.", 12 RSVD_GND (power) "Ground.", 15 VDDO2 (power) "Output Clock Supply Voltage.", 16 VDDO1 (power) "Output Clock Supply Voltage.", 20 VDDO0 (power) "Output Clock Supply Voltage.", 23 RSVD_GND (power) "Ground.", 24 VDD (power) "Core Supply Voltage.", 25 GND (power) "Ground Pad."

## Si5330H-B00220-GMR
designator U?
3.3 V Low-Jitter, Low-Skew Clock Buffer / Level Translator, 5 to 350 MHz, -40 to 85 degC, 24-pin QFN, Tape and Reel; Manufacturer: Silicon Labs; PartNumber: Si5330H-B00220-GMR; Frequency (MHz): 5 to 350; Output Format: SSTL; Sub-Family: Clock Buffers; DatasheetVersion: Rev. 1.1; PackageReference: QFN-24; PackageDescription: 24-Pin Quad-Flat No-Leads Package, Body 4 x 4 mm, Pitch 0.5 mm; Supplier 1: Digi-Key; Supplier Part Number 1: SI5330H-B00220-GMR-ND; Supplier 2: Mouser; Supplier Part Number 2: 634-SI5330HB00220GMR; Packing: Tape and Reel; Mounting Technology: Surface Mount; Code_JEDEC: MO-220; Code_IPC: J-STD-020; ComponentLink1Description: Manufacturer URL; ComponentLink1URL: http://www.silabs.com/; ComponentLink2Description: Datasheet; ComponentLink2URL: http://www.silabs.com/Support%20Documents/TechnicalDocs/Si5330.pdf; ComponentLink3Description: Package Specification; ComponentLink3URL: http://www.silabs.com/Support%20Documents/TechnicalDocs/Si5330.pdf
footprint SLAB-QFN-24-2500x2500TP_N (QFN, 24-Leads, Body 4x4mm, Pitch 0.5mm, Thermal Pad 2.5x2.5mm, IPC Medium Density)
footprint SLAB-QFN-24-2500x2500TP_L (QFN, 24-Leads, Body 4x4mm, Pitch 0.5mm, Thermal Pad 2.5x2.5mm, IPC High Density)
footprint SLAB-QFN-24-2500x2500TP_M (QFN, 24-Leads, Body 4x4mm, Pitch 0.5mm, Thermal Pad 2.5x2.5mm, IPC Low Density)
part A pins: 1 IN1 (in), 2 IN2 (in), 3 IN3 (in), 8 LOS (oc) "Loss of Signal Indicator.", 9 CLK3B (out), 10 CLK3A (out), 13 CLK2B (out), 14 CLK2A (out), 17 CLK1B (out), 18 CLK1A (out), 19 OEB (in) "Output Enable.", 21 CLK0B (out), 22 CLK0A (out)
part B pins: 4 RSVD_GND (power) "Ground.", 5 RSVD_GND (power) "Ground.", 6 RSVD_GND (power) "Ground.", 7 VDD (power) "Core Supply Voltage.", 11 VDDO3 (power) "Output Clock Supply Voltage.", 12 RSVD_GND (power) "Ground.", 15 VDDO2 (power) "Output Clock Supply Voltage.", 16 VDDO1 (power) "Output Clock Supply Voltage.", 20 VDDO0 (power) "Output Clock Supply Voltage.", 23 RSVD_GND (power) "Ground.", 24 VDD (power) "Core Supply Voltage.", 25 GND (power) "Ground Pad."

## Si5330H-B00221-GM
designator U?
2.5 V Low-Jitter, Low-Skew Clock Buffer / Level Translator, 5 to 350 MHz, -40 to 85 degC, 24-pin QFN; Manufacturer: Silicon Labs; PartNumber: Si5330H-B00221-GM; Frequency (MHz): 5 to 350; Output Format: SSTL; Sub-Family: Clock Buffers; DatasheetVersion: Rev. 1.1; PackageReference: QFN-24; PackageDescription: 24-Pin Quad-Flat No-Leads Package, Body 4 x 4 mm, Pitch 0.5 mm; Supplier 1: Digi-Key; Supplier Part Number 1: SI5330H-B00221-GM-ND; Supplier 2: Mouser; Supplier Part Number 2: 634-SI5330HB00221-GM; Mounting Technology: Surface Mount; Code_JEDEC: MO-220; Code_IPC: J-STD-020; ComponentLink1Description: Manufacturer URL; ComponentLink1URL: http://www.silabs.com/; ComponentLink2Description: Datasheet; ComponentLink2URL: http://www.silabs.com/Support%20Documents/TechnicalDocs/Si5330.pdf; ComponentLink3Description: Package Specification; ComponentLink3URL: http://www.silabs.com/Support%20Documents/TechnicalDocs/Si5330.pdf
footprint SLAB-QFN-24-2500x2500TP_N (QFN, 24-Leads, Body 4x4mm, Pitch 0.5mm, Thermal Pad 2.5x2.5mm, IPC Medium Density)
footprint SLAB-QFN-24-2500x2500TP_L (QFN, 24-Leads, Body 4x4mm, Pitch 0.5mm, Thermal Pad 2.5x2.5mm, IPC High Density)
footprint SLAB-QFN-24-2500x2500TP_M (QFN, 24-Leads, Body 4x4mm, Pitch 0.5mm, Thermal Pad 2.5x2.5mm, IPC Low Density)
part A pins: 1 IN1 (in), 2 IN2 (in), 3 IN3 (in), 8 LOS (oc) "Loss of Signal Indicator.", 9 CLK3B (out), 10 CLK3A (out), 13 CLK2B (out), 14 CLK2A (out), 17 CLK1B (out), 18 CLK1A (out), 19 OEB (in) "Output Enable.", 21 CLK0B (out), 22 CLK0A (out)
part B pins: 4 RSVD_GND (power) "Ground.", 5 RSVD_GND (power) "Ground.", 6 RSVD_GND (power) "Ground.", 7 VDD (power) "Core Supply Voltage.", 11 VDDO3 (power) "Output Clock Supply Voltage.", 12 RSVD_GND (power) "Ground.", 15 VDDO2 (power) "Output Clock Supply Voltage.", 16 VDDO1 (power) "Output Clock Supply Voltage.", 20 VDDO0 (power) "Output Clock Supply Voltage.", 23 RSVD_GND (power) "Ground.", 24 VDD (power) "Core Supply Voltage.", 25 GND (power) "Ground Pad."

## Si5330H-B00221-GMR
designator U?
2.5 V Low-Jitter, Low-Skew Clock Buffer / Level Translator, 5 to 350 MHz, -40 to 85 degC, 24-pin QFN, Tape and Reel; Manufacturer: Silicon Labs; PartNumber: Si5330H-B00221-GMR; Frequency (MHz): 5 to 350; Output Format: SSTL; Sub-Family: Clock Buffers; DatasheetVersion: Rev. 1.1; PackageReference: QFN-24; PackageDescription: 24-Pin Quad-Flat No-Leads Package, Body 4 x 4 mm, Pitch 0.5 mm; Supplier 1: Digi-Key; Supplier Part Number 1: SI5330H-B00221-GMR-ND; Supplier 2: Mouser; Supplier Part Number 2: 634-SI5330HB00221GMR; Packing: Tape and Reel; Mounting Technology: Surface Mount; Code_JEDEC: MO-220; Code_IPC: J-STD-020; ComponentLink1Description: Manufacturer URL; ComponentLink1URL: http://www.silabs.com/; ComponentLink2Description: Datasheet; ComponentLink2URL: http://www.silabs.com/Support%20Documents/TechnicalDocs/Si5330.pdf; ComponentLink3Description: Package Specification; ComponentLink3URL: http://www.silabs.com/Support%20Documents/TechnicalDocs/Si5330.pdf
footprint SLAB-QFN-24-2500x2500TP_N (QFN, 24-Leads, Body 4x4mm, Pitch 0.5mm, Thermal Pad 2.5x2.5mm, IPC Medium Density)
footprint SLAB-QFN-24-2500x2500TP_L (QFN, 24-Leads, Body 4x4mm, Pitch 0.5mm, Thermal Pad 2.5x2.5mm, IPC High Density)
footprint SLAB-QFN-24-2500x2500TP_M (QFN, 24-Leads, Body 4x4mm, Pitch 0.5mm, Thermal Pad 2.5x2.5mm, IPC Low Density)
part A pins: 1 IN1 (in), 2 IN2 (in), 3 IN3 (in), 8 LOS (oc) "Loss of Signal Indicator.", 9 CLK3B (out), 10 CLK3A (out), 13 CLK2B (out), 14 CLK2A (out), 17 CLK1B (out), 18 CLK1A (out), 19 OEB (in) "Output Enable.", 21 CLK0B (out), 22 CLK0A (out)
part B pins: 4 RSVD_GND (power) "Ground.", 5 RSVD_GND (power) "Ground.", 6 RSVD_GND (power) "Ground.", 7 VDD (power) "Core Supply Voltage.", 11 VDDO3 (power) "Output Clock Supply Voltage.", 12 RSVD_GND (power) "Ground.", 15 VDDO2 (power) "Output Clock Supply Voltage.", 16 VDDO1 (power) "Output Clock Supply Voltage.", 20 VDDO0 (power) "Output Clock Supply Voltage.", 23 RSVD_GND (power) "Ground.", 24 VDD (power) "Core Supply Voltage.", 25 GND (power) "Ground Pad."

## Si5330H-B00222-GM
designator U?
1.8 V Low-Jitter, Low-Skew Clock Buffer / Level Translator, 5 to 350 MHz, -40 to 85 degC, 24-pin QFN; Manufacturer: Silicon Labs; PartNumber: Si5330H-B00222-GM; Frequency (MHz): 5 to 350; Output Format: SSTL; Sub-Family: Clock Buffers; DatasheetVersion: Rev. 1.1; PackageReference: QFN-24; PackageDescription: 24-Pin Quad-Flat No-Leads Package, Body 4 x 4 mm, Pitch 0.5 mm; Supplier 1: Digi-Key; Supplier Part Number 1: SI5330H-B00222-GM-ND; Supplier 2: Mouser; Supplier Part Number 2: 634-SI5330HB00222-GM; Mounting Technology: Surface Mount; Code_JEDEC: MO-220; Code_IPC: J-STD-020; ComponentLink1Description: Manufacturer URL; ComponentLink1URL: http://www.silabs.com/; ComponentLink2Description: Datasheet; ComponentLink2URL: http://www.silabs.com/Support%20Documents/TechnicalDocs/Si5330.pdf; ComponentLink3Description: Package Specification; ComponentLink3URL: http://www.silabs.com/Support%20Documents/TechnicalDocs/Si5330.pdf
footprint SLAB-QFN-24-2500x2500TP_N (QFN, 24-Leads, Body 4x4mm, Pitch 0.5mm, Thermal Pad 2.5x2.5mm, IPC Medium Density)
footprint SLAB-QFN-24-2500x2500TP_L (QFN, 24-Leads, Body 4x4mm, Pitch 0.5mm, Thermal Pad 2.5x2.5mm, IPC High Density)
footprint SLAB-QFN-24-2500x2500TP_M (QFN, 24-Leads, Body 4x4mm, Pitch 0.5mm, Thermal Pad 2.5x2.5mm, IPC Low Density)
part A pins: 1 IN1 (in), 2 IN2 (in), 3 IN3 (in), 8 LOS (oc) "Loss of Signal Indicator.", 9 CLK3B (out), 10 CLK3A (out), 13 CLK2B (out), 14 CLK2A (out), 17 CLK1B (out), 18 CLK1A (out), 19 OEB (in) "Output Enable.", 21 CLK0B (out), 22 CLK0A (out)
part B pins: 4 RSVD_GND (power) "Ground.", 5 RSVD_GND (power) "Ground.", 6 RSVD_GND (power) "Ground.", 7 VDD (power) "Core Supply Voltage.", 11 VDDO3 (power) "Output Clock Supply Voltage.", 12 RSVD_GND (power) "Ground.", 15 VDDO2 (power) "Output Clock Supply Voltage.", 16 VDDO1 (power) "Output Clock Supply Voltage.", 20 VDDO0 (power) "Output Clock Supply Voltage.", 23 RSVD_GND (power) "Ground.", 24 VDD (power) "Core Supply Voltage.", 25 GND (power) "Ground Pad."

## Si5330H-B00222-GMR
designator U?
1.8 V Low-Jitter, Low-Skew Clock Buffer / Level Translator, 5 to 350 MHz, -40 to 85 degC, 24-pin QFN, Tape and Reel; Manufacturer: Silicon Labs; PartNumber: Si5330H-B00222-GMR; Frequency (MHz): 5 to 350; Output Format: SSTL; Sub-Family: Clock Buffers; DatasheetVersion: Rev. 1.1; PackageReference: QFN-24; PackageDescription: 24-Pin Quad-Flat No-Leads Package, Body 4 x 4 mm, Pitch 0.5 mm; Supplier 1: Digi-Key; Supplier Part Number 1: SI5330H-B00222-GMR-ND; Supplier 2: Mouser; Supplier Part Number 2: 634-SI5330HB00222GMR; Packing: Tape and Reel; Mounting Technology: Surface Mount; Code_JEDEC: MO-220; Code_IPC: J-STD-020; ComponentLink1Description: Manufacturer URL; ComponentLink1URL: http://www.silabs.com/; ComponentLink2Description: Datasheet; ComponentLink2URL: http://www.silabs.com/Support%20Documents/TechnicalDocs/Si5330.pdf; ComponentLink3Description: Package Specification; ComponentLink3URL: http://www.silabs.com/Support%20Documents/TechnicalDocs/Si5330.pdf
footprint SLAB-QFN-24-2500x2500TP_N (QFN, 24-Leads, Body 4x4mm, Pitch 0.5mm, Thermal Pad 2.5x2.5mm, IPC Medium Density)
footprint SLAB-QFN-24-2500x2500TP_L (QFN, 24-Leads, Body 4x4mm, Pitch 0.5mm, Thermal Pad 2.5x2.5mm, IPC High Density)
footprint SLAB-QFN-24-2500x2500TP_M (QFN, 24-Leads, Body 4x4mm, Pitch 0.5mm, Thermal Pad 2.5x2.5mm, IPC Low Density)
part A pins: 1 IN1 (in), 2 IN2 (in), 3 IN3 (in), 8 LOS (oc) "Loss of Signal Indicator.", 9 CLK3B (out), 10 CLK3A (out), 13 CLK2B (out), 14 CLK2A (out), 17 CLK1B (out), 18 CLK1A (out), 19 OEB (in) "Output Enable.", 21 CLK0B (out), 22 CLK0A (out)
part B pins: 4 RSVD_GND (power) "Ground.", 5 RSVD_GND (power) "Ground.", 6 RSVD_GND (power) "Ground.", 7 VDD (power) "Core Supply Voltage.", 11 VDDO3 (power) "Output Clock Supply Voltage.", 12 RSVD_GND (power) "Ground.", 15 VDDO2 (power) "Output Clock Supply Voltage.", 16 VDDO1 (power) "Output Clock Supply Voltage.", 20 VDDO0 (power) "Output Clock Supply Voltage.", 23 RSVD_GND (power) "Ground.", 24 VDD (power) "Core Supply Voltage.", 25 GND (power) "Ground Pad."